# EAGLE library part MICROIMU_SOCKET (library con-special_purpose)
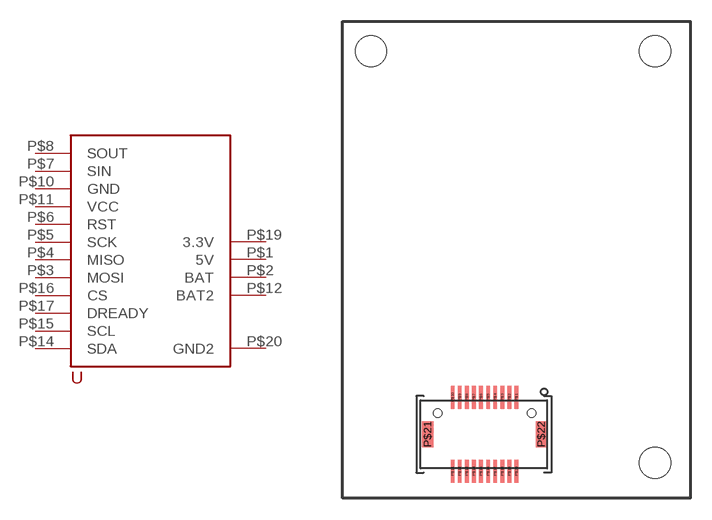
[diagram p9: symbol with the pads of MICROIMU_SOCKET_HANDSOLDER; footprint MICROIMU_SOCKET_HANDSOLDER]

Designator prefix -

## MICROIMU_SOCKETHANDSOLDER (PLACE_PART: YES)  [MICROIMU_SOCKET_HANDSOLDER]
P$1  5V
P$2  BAT
P$3  MOSI
P$4  MISO
P$5  SCK
P$6  RST
P$7  SIN
P$8  SOUT
P$10  GND
P$11  VCC
P$12  BAT2
P$14  SDA
P$15  SCL
P$16  CS
P$17  DREADY
P$19  3.3V
P$20  GND2

## Footprint MICROIMU_SOCKET_HANDSOLDER (pad centres in mm)
smd 0.27 x 1.6: P$1 2.25,2.612; P$2 1.75,2.612; P$3 1.25,2.612; P$4 0.75,2.612; P$5 0.25,2.612; P$6 -0.25,2.612; P$7 -0.75,2.612; P$8 -1.25,2.612; P$9 -1.75,2.612; P$10 -2.25,2.612; P$11 -2.25,-2.612; P$12 -1.75,-2.612; P$13 -1.25,-2.612; P$14 -0.75,-2.612; P$15 -0.25,-2.612; P$16 0.25,-2.612; P$17 0.75,-2.612; P$18 1.25,-2.612; P$19 1.75,-2.612; P$20 2.25,-2.612
smd 0.8 x 1.8: P$21 -4,0; P$22 4,0
hole 0.6 at -3.3,1.5
hole 0.6 at 3.3,1.5
hole 2.2 at 12,27
hole 2.2 at -8,27
hole 2.2 at 12,-2